# Altium footprint library ATK-2014-09-12.PcbLib: 439 footprints (part 1 of 28)
Each footprint in its own frame and in the unit in brackets; x right, y up, seen from the top. Pads: shape width x height; smd on the part's side, far side on the other; paste and mask are expansions set on the pad; w line width, h text height; cw(c..) or ccw(c..) is an arc to the next point about the centre after c.
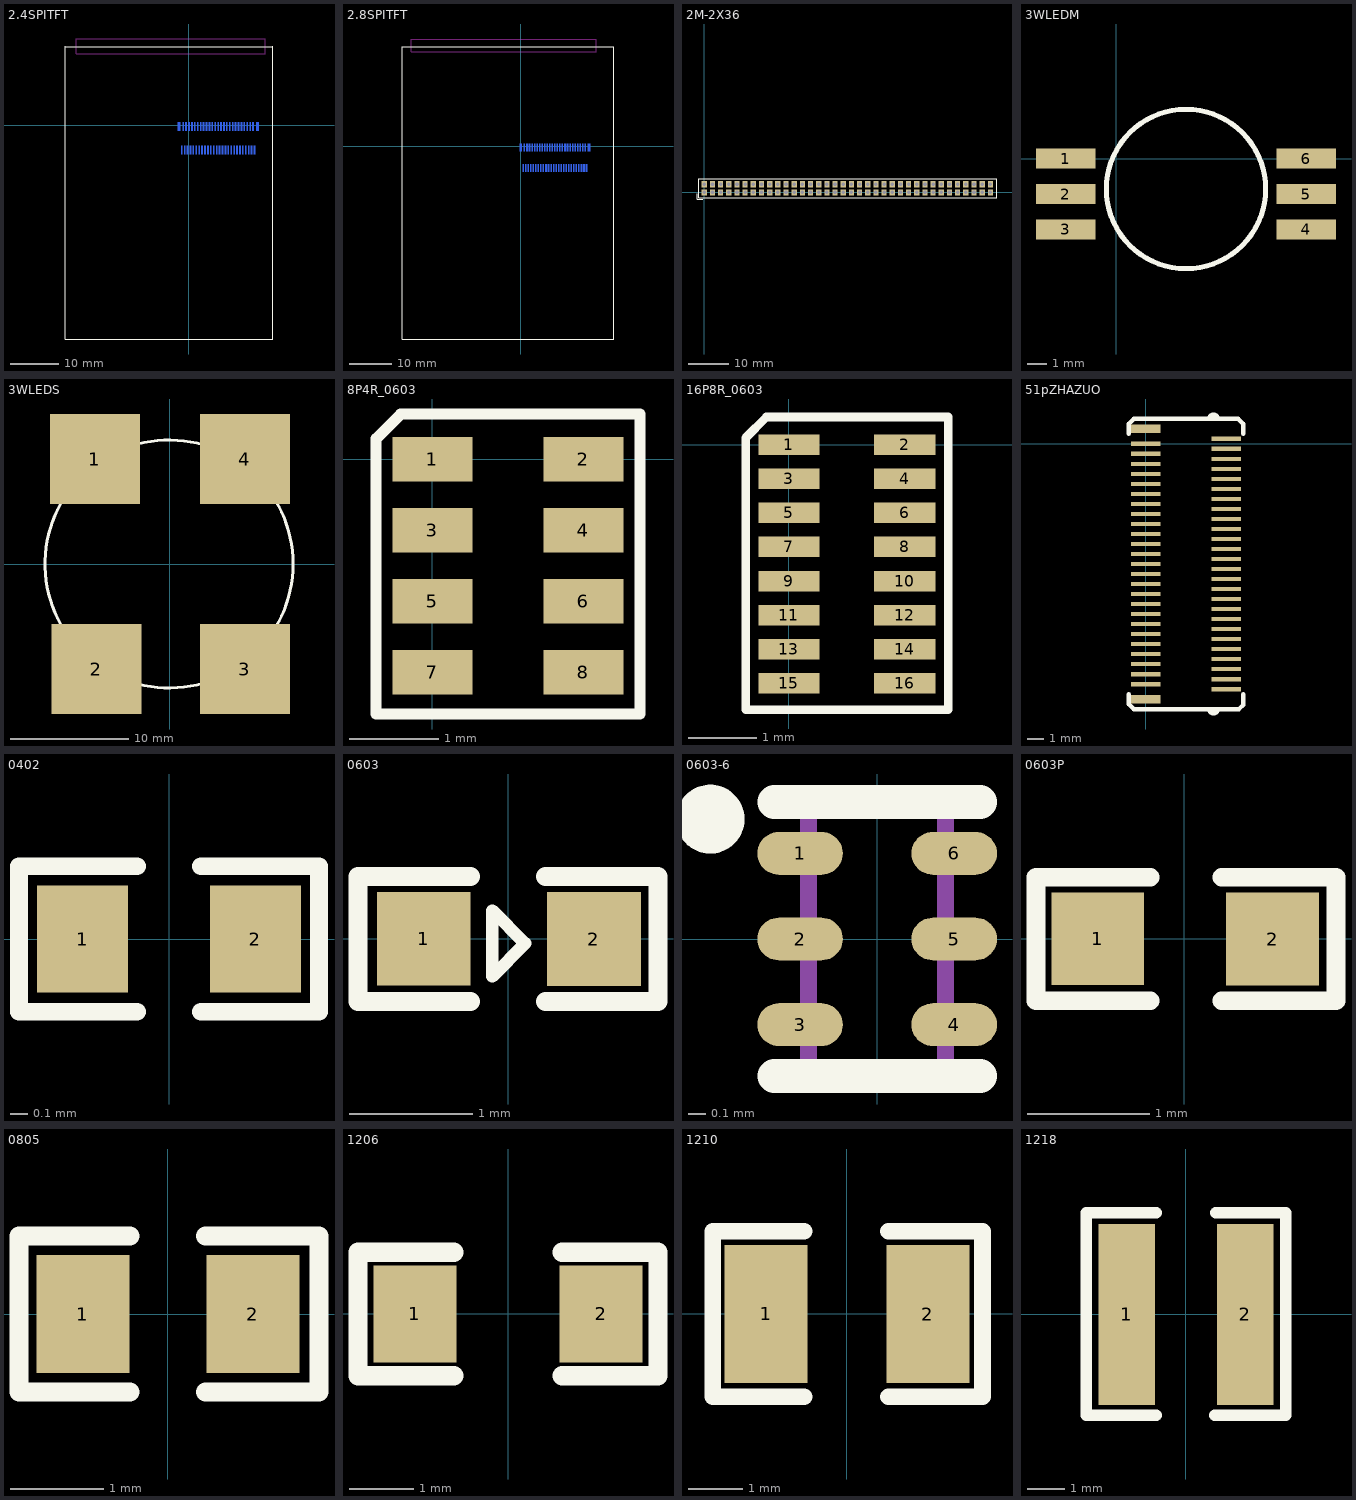
[diagram p0: the footprints below, top view; thin cyan lines are the x and y axes]

## 2.4SPITFT [mil] "2.4_TFT"
height 78.74
pads (53):
  rect 10x70 smd far side: 1(534.17,-200) 2(522.36,-10) 3(510.55,-200) 4(498.74,-10) 5(486.93,-200) 6(475.12,-10) 7(463.31,-200) 8(451.5,-10) 9(439.68,-200) 10(427.87,-10) 11(416.06,-200) 12(404.25,-10) 13(392.44,-200) 14(380.63,-10) 15(368.82,-200) 16(357.01,-10) 17(345.2,-200) 18(333.38,-10) 19(321.57,-200) 20(309.76,-10) 21(297.95,-200) 22(286.14,-10) 23(274.33,-200) 24(262.52,-10) 25(250.71,-200) 26(238.9,-10) 27(227.09,-200) 28(215.28,-10) 29(203.46,-200) 30(191.65,-10) 31(179.84,-200) 32(168.03,-10) 33(156.22,-200) 34(144.41,-10) 35(132.6,-200) 36(120.79,-10) 37(108.98,-200) 38(97.17,-10) 39(85.35,-200) 40(73.54,-10) 41(61.73,-200) 42(49.92,-10) 43(38.11,-200) 44(26.3,-10) 45(14.49,-200) 46(2.68,-10) 47(-9.13,-200) 48(-20.95,-10) 49(-32.76,-200) 50(-44.57,-10) 51(-56.38,-200)
  rect 20x70 smd far side: ""(-80,-10) ""(557.79,-10)
Top Overlay:
  lines w5: -1000.94,640 -1000.94,-1733.23 680.94,-1733.23 680.94,640 ; -1000,639 681.89,639
Bottom Overlay:
  lines w5: -61.57,-174.88 552.6,-174.88 552.6,637.4
  lines w10: -103.62,-180 cw(c-103.62,-170) -103.62,-160 ; -68.19,-240 -93.62,-240 -103.62,-230 -103.62,18.19 -91.81,30 -68.19,30 ; 545.98,-240 569.61,-240 581.42,-228.19 581.42,18.19 569.61,30 545.98,30 ; 581.42,-180 ccw(c581.42,-170) 581.42,-160
Keep-Out Layer:
  lines w5: -910,580 -910,700 620,700 620,580 -910,580

## 2.8SPITFT [mil] "2.8_TFT"
height 78.74
pads (53):
  rect 10x70 smd far side: 1(615,-200) 2(603.19,-10) 3(591.38,-200) 4(579.57,-10) 5(567.76,-200) 6(555.95,-10) 7(544.13,-200) 8(532.32,-10) 9(520.51,-200) 10(508.7,-10) 11(496.89,-200) 12(485.08,-10) 13(473.27,-200) 14(461.46,-10) 15(449.65,-200) 16(437.83,-10) 17(426.02,-200) 18(414.21,-10) 19(402.4,-200) 20(390.59,-10) 21(378.78,-200) 22(366.97,-10) 23(355.16,-200) 24(343.35,-10) 25(331.54,-200) 26(319.73,-10) 27(307.91,-200) 28(296.1,-10) 29(284.29,-200) 30(272.48,-10) 31(260.67,-200) 32(248.86,-10) 33(237.05,-200) 34(225.24,-10) 35(213.43,-200) 36(201.62,-10) 37(189.8,-200) 38(177.99,-10) 39(166.18,-200) 40(154.37,-10) 41(142.56,-200) 42(130.75,-10) 43(118.94,-200) 44(107.13,-10) 45(95.32,-200) 46(83.5,-10) 47(71.69,-200) 48(59.88,-10) 49(48.07,-200) 50(36.26,-10) 51(24.45,-200)
  rect 20x70 smd far side: ""(0.83,-10) ""(638.62,-10)
Top Overlay:
  lines w5: 626.81,928.66 867.36,928.66 ; 867.36,928.66 867.36,-1795.75 -1101.14,-1795.75 -1101.14,928.66 867.36,928.66
Bottom Overlay:
  lines w5: -984.21,930 -984.21,-170 626.81,-170 ; 626.81,-32.2 12.64,-32.2 ; 626.81,930 626.81,-170 ; 12.64,-170 626.81,-170 ; 12.64,-170 12.64,-32.2 ; 12.64,-170 12.64,-32.2
  lines w10: -22.79,-180 cw(c-22.79,-170) -22.79,-160 ; 12.64,-240 -12.79,-240 -22.79,-230 -22.79,18.19 -10.98,30 12.64,30 ; 626.81,-240 650.43,-240 662.24,-228.19 662.24,18.19 650.43,30 626.81,30 ; 662.24,-180 ccw(c662.24,-170) 662.24,-160
Keep-Out Layer:
  lines w5: -1018.54,880 707.68,880 707.68,1000 -1018.54,1000 -1018.54,880

## 2M-2X36 [mil]
pads (72):
  rect 50x60 hole 33.46: 1(0,0) 2(0,78.74)
  rect 50x60 hole 35: 3(78.74,0) 4(78.74,78.74) 5(157.48,0) 6(157.48,78.74) 7(236.22,0) 8(236.22,78.74) 9(314.96,0) 10(314.96,78.74) 11(393.7,0) 12(393.7,78.74) 13(472.44,0) 14(472.44,78.74) 15(551.18,0) 16(551.18,78.74) 17(629.92,0) 18(629.92,78.74) 19(708.66,0) 20(708.66,78.74) 21(787.4,0) 22(787.4,78.74) 23(866.14,0) 24(866.14,78.74) 25(944.88,0) 26(944.88,78.74) 27(1023.62,0) 28(1023.62,78.74) 29(1102.36,0) 30(1102.36,78.74) 31(1181.1,0) 32(1181.1,78.74) 33(1259.84,0) 34(1259.84,78.74) 35(1338.58,0) 36(1338.58,78.74) 37(1417.32,0) 38(1417.32,78.74) 39(1496.06,0) 40(1496.06,78.74) 41(1574.8,0) 42(1574.8,78.74) 43(1653.54,0) 44(1653.54,78.74) 45(1732.28,0) 46(1732.28,78.74) 47(1811.02,0) 48(1811.02,78.74) 49(1889.76,0) 50(1889.76,78.74) 51(1968.5,0) 52(1968.5,78.74) 53(2047.24,0) 54(2047.24,78.74) 55(2125.98,0) 56(2125.98,78.74) 57(2204.72,0) 58(2204.72,78.74) 59(2283.46,0) 60(2283.46,78.74) 61(2362.2,0) 62(2362.2,78.74) 63(2440.94,0) 64(2440.94,78.74) 65(2519.68,0) 66(2519.68,78.74) 67(2598.43,0) 68(2598.43,78.74) 69(2677.17,0) 70(2677.17,78.74) 71(2755.91,0) 72(2755.91,78.74)
Top Overlay:
  lines w10: -70,-15 -70,-65 -15,-65 ; 1365,-50 2820,-50 2820,-40 2820,130 1365,130 ; 1400,-50 -55,-50 -55,130 1400,130

## 3WLEDM [mm] "RGBLED"
pads (6):
  rect 3x1 smd: 1(-2.54,0) 2(-2.54,-1.778) 3(-2.54,-3.556) 4(9.525,-3.556) 5(9.525,-1.778) 6(9.525,0)
Top Overlay:
  circle w0.254: c3.493,-1.524 r4

## 3WLEDS [mil] "3WLED-21"
height 196.85
pads (4):
  rect 300x300 smd: 1(-250,350) 2(-245,-350) 3(250,-350) 4(250,350)
Top Overlay:
  circle w10: c-2.63,0 r413.39

## 8P4R_0603 [mm]
pads (8):
  rect 0.9x0.5 smd: 1(0,0) 2(1.7,0) 3(0,-0.8) 4(1.7,-0.8) 5(0,-1.6) 6(1.7,-1.6) 7(0,-2.4) 8(1.7,-2.4)
Top Overlay:
  lines w0.127: -0.635,-2.87 -0.635,0.229 -0.356,0.508 2.337,0.508 2.337,-2.87 -0.635,-2.87

## 16P8R_0603 [mm]
pads (16):
  rect 0.9x0.3 smd: 1(0,0) 2(1.7,0) 3(0,-0.5) 4(1.7,-0.5) 5(0,-1) 6(1.7,-1) 7(0,-1.5) 8(1.7,-1.5) 9(0,-2) 10(1.7,-2) 11(0,-2.5) 12(1.7,-2.5) 13(0,-3) 14(1.7,-3) 15(0,-3.5) 16(1.7,-3.5)
Top Overlay:
  lines w0.127: -0.635,-3.886 2.337,-3.886 2.337,0.406 -0.33,0.406 -0.635,0.102 -0.635,-3.886

## 51pZHAZUO [mil]
pads (53):
  rect 70x10 smd: 1(190,11.81) 2(0,0) 3(190,-11.81) 4(0,-23.62) 5(190,-35.43) 6(0,-47.24) 7(190,-59.05) 8(0,-70.87) 9(190,-82.68) 10(0,-94.49) 11(190,-106.3) 12(0,-118.11) 13(190,-129.92) 14(0,-141.73) 15(190,-153.54) 16(0,-165.35) 17(190,-177.16) 18(0,-188.98) 19(190,-200.79) 20(0,-212.6) 21(190,-224.41) 22(0,-236.22) 23(190,-248.03) 24(0,-259.84) 25(190,-271.65) 26(0,-283.46) 27(190,-295.27) 28(0,-307.09) 29(190,-318.9) 30(0,-330.71) 31(190,-342.52) 32(0,-354.33) 33(190,-366.14) 34(0,-377.95) 35(190,-389.76) 36(0,-401.57) 37(190,-413.38) 38(0,-425.2) 39(190,-437.01) 40(0,-448.82) 41(190,-460.63) 42(0,-472.44) 43(190,-484.25) 44(0,-496.06) 45(190,-507.87) 46(0,-519.68) 47(190,-531.5) 48(0,-543.31) 49(190,-555.12) 50(0,-566.93) 51(190,-578.74)
  rect 70x20 smd: ""(0,-602.36) ""(0,35.43)
Top Overlay:
  lines w10: -40,-590.55 -40,-614.17 -28.19,-625.98 220,-625.98 230,-615.98 230,-590.55 ; -40,23.62 -40,47.24 -28.19,59.05 218.19,59.05 230,47.24 230,23.62 ; 150,-625.98 ccw(c160,-625.98) 170,-625.98 ; 150,59.05 cw(c160,59.05) 170,59.05

## 0402 [mil]
pads (2):
  rect 20x23.62 smd: 1(-19,0) 2(19,0)
Top Overlay:
  lines w3.94: -7,-16 -33,-16 -33,16 -7,16 ; 7,-16 33,-16 33,16 7,16

## 0603 [mil]
pads (2):
  rect 30x30 smd: 1(-27,0) 2(27.5,-0.06)
Top Overlay:
  lines w4: -5,-12 -5,9 5.5,-1.5 -5,-12
  lines w6: -12,-20.06 -48,-20.06 -48,19.94 -12,19.94 ; 12,-20.06 48,-20.06 48,19.94 12,19.94

## 0603-6 [mm] "SOIC, 6-Leads, Body 1.6x0.6mm (max), Pitch 1.27mm, IPC Medium Density"
height 0.5
pads (6):
  oval 0.5x0.25 smd: 1(-0.45,0.5) 2(-0.45,0) 3(-0.45,-0.5) 4(0.45,-0.5) 5(0.45,0) 6(0.45,0.5)
Top Overlay:
  circle w0.25: c-0.976,0.7 r0.076
  lines w0.2: -0.6,-0.8 0.6,-0.8 ; -0.6,0.8 0.6,0.8
Mechanical 13:
  lines w0.1: -0.4,-0.8 -0.4,0.8 0.4,0.8 0.4,-0.8 -0.4,-0.8
3D body: height 0.5, standoff 0.1, extent -0.3,-0.8 0.3,0.8

## 0603P [mil]
pads (2):
  rect 30x30 smd: 1(-28,0) 2(28.5,-0.06)
Top Overlay:
  lines w6: -11,-20.06 -48,-20.06 -48,19.94 -11,19.94 ; 12,-20.06 49,-20.06 49,19.94 12,19.94

## 0805 [mm]
pads (2):
  rect 1x1.27 smd: 1(-0.914,0) 2(0.914,0)
Top Overlay:
  lines w0.203: -0.406,-0.838 -1.6,-0.838 -1.6,0.838 -0.406,0.838 ; 0.406,-0.838 1.626,-0.838 1.626,0.838 0.406,0.838

## 1206 [mil]
pads (2):
  rect 51.18x60 smd: 1(-57.5,0) 2(57.5,0)
Top Overlay:
  lines w12: -33.46,-38 -92.52,-38 -92.52,38 -33.46,38 ; 33.46,-38 92.52,-38 92.52,38 33.46,38

## 1210 [mil]
pads (2):
  rect 60x100 smd: 1(-58.5,0) 2(58.5,0)
Top Overlay:
  lines w12: -31,-60 -97,-60 -97,60 -31,60 ; 30,-60 98,-60 98,60 30,60

## 1218 [mm]
pads (2):
  rect 1.5x4.8 smd: 1(-1.575,0) 2(1.575,0)
Top Overlay:
  lines w0.305: -0.787,-2.667 -2.642,-2.667 -2.642,2.692 -0.787,2.692 ; 0.762,-2.667 2.642,-2.667 2.642,2.692 0.787,2.692